# EAGLE library part EB-85A (library adafruit-with-additions)
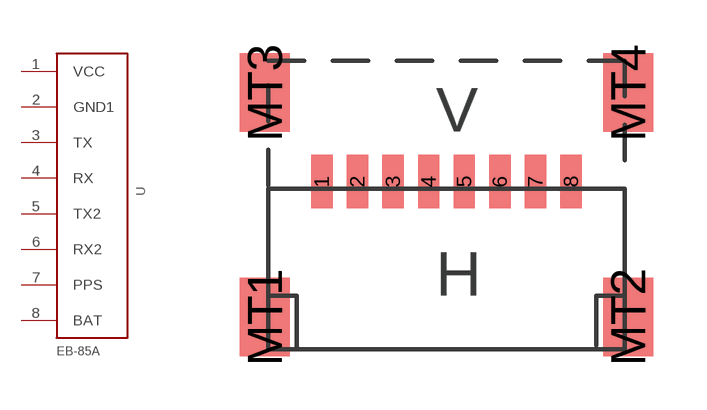
[diagram p28: symbol with the pads of JST-8POS; footprint JST-8POS]

Designator prefix -

## EB-85A  [JST-8POS]
1  VCC  sup
2  GND1  sup
3  TX  out
4  RX  in
5  TX2  out
6  RX2  in
7  PPS  out
8  BAT  sup

## Footprint JST-8POS (pad centres in mm)
smd 0.6 x 1.5: 1 -3.5,0.2; 2 -2.5,0.2; 3 -1.5,0.2; 4 -0.5,0.2; 5 0.5,0.2; 6 1.5,0.2; 7 2.5,0.2; 8 3.5,0.2
smd 1.4 x 2.2: MT1 -5.1,-3.6; MT2 5.1,-3.6; MT3 -5.1,2.7; MT4 5.1,2.7